# EAGLE library part 7WZU04 (library MSA_lib)
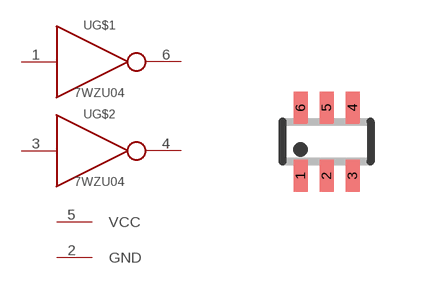
[diagram p4: symbol with the pads of SC70-6L; footprint SC70-6L]

Designator prefix -; gates G$1=7WZU04 G$2=7WZU04 G$3=POWER

## 7WZU04 (OC_FARNELL: 1467353)  [SC70-6L]
1  G$1:IN  in
2  G$3:GND
3  G$2:IN  in
4  G$2:OUT  out
5  G$3:VCC
6  G$1:OUT  out

## Footprint SC70-6L (pad centres in mm)
SC-70 Package
smd 0.35 x 0.8: 1 -0.65,-0.85; 2 0,-0.85; 3 0.65,-0.85; 4 0.65,0.85; 5 0,0.85; 6 -0.65,0.85